# Altium schematic symbol library DI_STD_TVS_BI.Schlib: 1 symbol
Pins are listed as number, name and electrical type; pins without a type are passive.

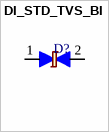
[diagram p0: symbol DI_STD_TVS_BI]

## DI_STD_TVS_BI
designator D?
Diode Transient Voltage Suppresion Bidirectional
pins: 1, 2